# Altium integrated library FG24X7R1H105KRT06.IntLib: 1 symbol
Pins are listed as number, name and electrical type; pins without a type are passive.

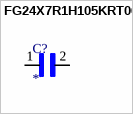
[diagram p0: symbol FG24X7R1H105KRT06]

## FG24X7R1H105KRT06
designator C?
Cap Ceramic 1uF 50V X7R 10% Radial 5mm 125Â°C Tape; MF: TDK; MP: FG24X7R1H105KRT06; Package: Radial TDK; Price: None; SnapEDA_Link: https://www.snapeda.com/parts/FG24X7R1H105KRT06/TDK/view-part/?ref=snap; Purchase-URL: https://pricing.snapeda.com/search/part/FG24X7R1H105KRT06/?ref=eda; Value: *; Check_prices: https://www.snapeda.com/parts/FG24X7R1H105KRT06/TDK/view-part/?ref=eda; Availability: In Stock
footprint CAPRB500W50L450T300H550
pins: 1, 2